# EAGLE library part TPS63060 (library PatternAgents-TI-Tiva)
TPS63060 - Buck/Boost Converter Source : http://www.ti.com/ Github : https://github.com/PatternAgents License : http://creativecommons.org/licenses/by-sa/3.0/ (Creative Commons 3.0) THIS SOFTWARE IS PROVIDED BY THE CONTRIBUTORS "AS IS" AND WITHOUT ANY EXPRESS OR IMPLIED WARRANTIES, INCLUDING, BUT NOT LIMITED TO, THE IMPLIED WARRANTIES OF MERCHANTABILITY AND FITNESS FOR A PARTICULAR PURPOSE ARE DISCLAIMED. IN NO EVENT SHALL THE COPYRIGHT OWNER OR CONTRIBUTORS BE LIABLE FOR ANY DIRECT, INDIRECT, INCIDENTAL, SPECIAL, EXEMPLARY, OR CONSEQUENTIAL DAMAGES (INCLUDING, BUT NOT LIMITED TO, PROCUREMENT OF SUBSTITUTE GOODS OR SERVICES; LOSS OF USE, DATA, OR PROFITS; OR BUSINESS INTERRUPTION) HOWEVER CAUSED AND ON ANY THEORY OF LIABILITY, WHETHER IN CONTRACT, STRICT LIABILITY, OR TORT (INCLUDING NEGLIGENCE OR OTHERWISE) ARISING IN ANY WAY OUT OF THE USE OF THIS SOFTWARE, EVEN IF ADVISED OF THE POSSIBILITY OF SUCH DAMAGE.
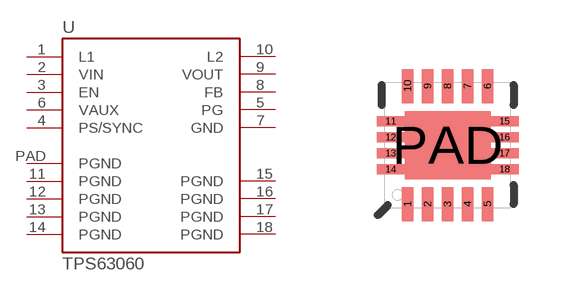
[diagram p4: symbol with the pads of QFN-10_PAD-8; footprint QFN-10_PAD-8]

Designator prefix U

## TPS63060  [QFN-10_PAD-8]
1  L1
2  VIN
3  EN
4  PS/SYNC
5  PG
6  VAUX
7  GND
8  FB
9  VOUT
10  L2
11  PGND
12  PGND
13  PGND
14  PGND
15  PGND
16  PGND
17  PGND
18  PGND
PAD  PGND

## Footprint QFN-10_PAD-8 (pad centres in mm)
smd 0.28 x 0.85: 1 -1,-1.475; 2 -0.5,-1.475; 3 0,-1.475; 4 0.5,-1.475; 5 1,-1.475; 6 1,1.475; 7 0.5,1.475; 8 0,1.475; 9 -0.5,1.475; 10 -1,1.475
smd 0.7 x 0.25: 11 -1.425,0.6; 12 -1.425,0.2; 13 -1.425,-0.2; 14 -1.425,-0.6; 15 1.425,0.6; 16 1.425,0.2; 17 1.425,-0.2; 18 1.425,-0.6
smd 2.15 x 1.7: PAD 0,0